# Altium footprint library fitipower.PcbLib: 7 footprints
Each footprint in its own frame and in the unit in brackets; x right, y up, seen from the top. Pads: shape width x height; smd on the part's side, far side on the other; paste and mask are expansions set on the pad; w line width, h text height; cw(c..) or ccw(c..) is an arc to the next point about the centre after c.
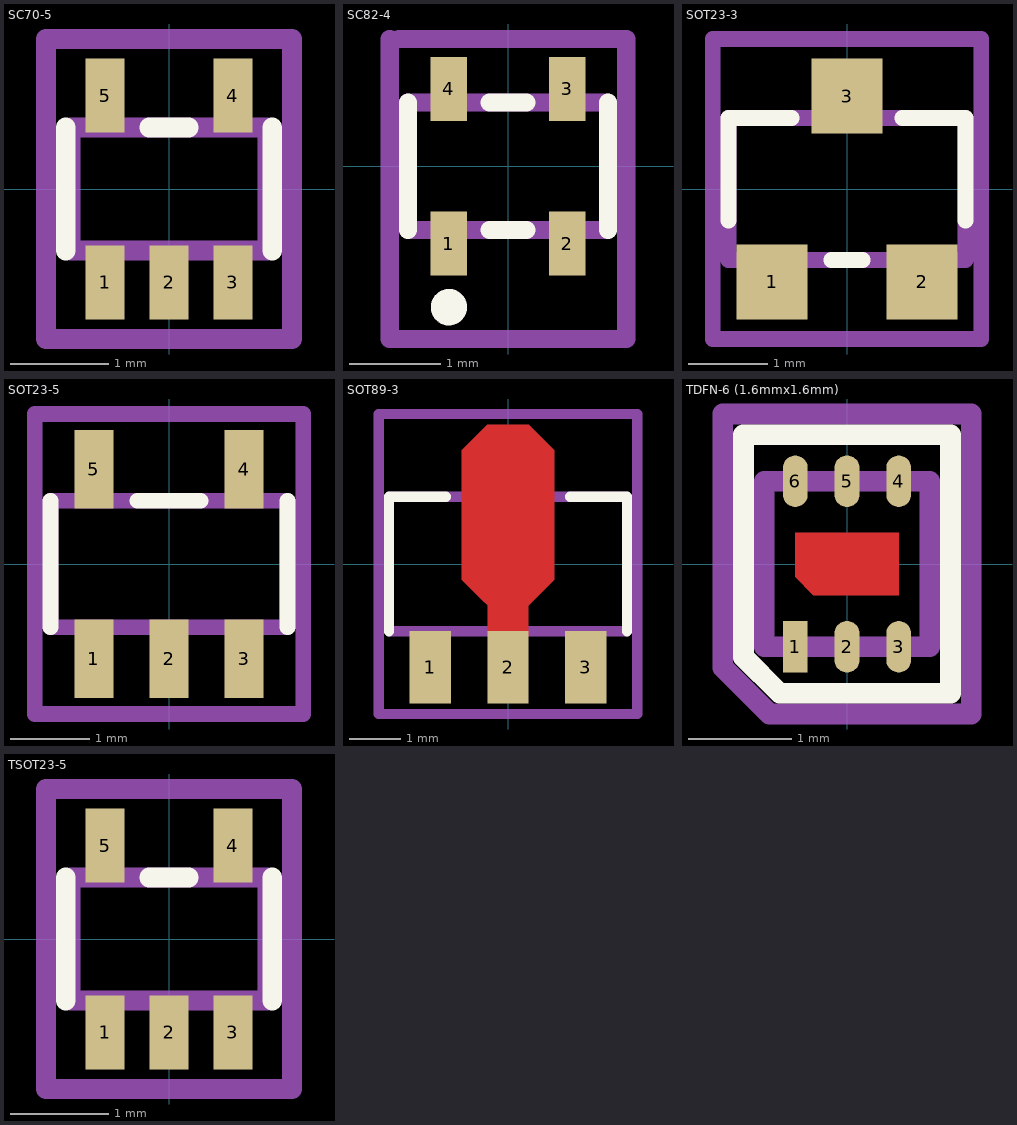
[diagram p0: the footprints below, top view; thin cyan lines are the x and y axes]

## SC70-5 [mm]
pads (5):
  rect 0.4x0.75 smd: 1(-0.65,-0.95) 2(0,-0.95) 3(0.65,-0.95) 4(0.65,0.95) 5(-0.65,0.95)
Top Overlay:
  lines w0.2: -1.05,-0.625 -1.05,0.625 ; -0.2,0.625 0.2,0.625 ; 1.05,-0.625 1.05,0.625
Mechanical 13:
  lines w0.2: -1,-0.625 -1,0.625 1,0.625 1,-0.625 -1,-0.625
Mechanical 15:
  lines w0.2: -1.25,-1.525 -1.25,1.525 1.25,1.525 1.25,-1.525 -1.25,-1.525

## SC82-4 [mm]
pads (4):
  rect 0.4x0.7 smd: 1(-0.65,-0.85) 2(0.65,-0.85) 3(0.65,0.85) 4(-0.65,0.85)
Top Overlay:
  circle w0.2: c-0.65,-1.55 r0.1
  lines w0.2: -1.1,-0.7 -1.1,0.7 ; -0.2,-0.7 0.2,-0.7 ; -0.2,0.7 0.2,0.7 ; 1.1,-0.7 1.1,0.7
Mechanical 13:
  lines w0.2: -1.1,-0.7 1.1,-0.7 1.1,0.7 -1.1,0.7 -1.1,-0.7
Mechanical 15:
  lines w0.2: -1.3,1.4 -1.3,-1.9 1.3,-1.9 1.3,1.4 -1.2,1.4

## SOT23-3 [mm] "SOT-23-3; SOT23-3; SOT-23; 3 Leads; Body 3.0 x 2.8 mm, inc. leads (LxW max)"
pads (3):
  rect 0.9x0.95 smd: 1(-0.95,-1.175) 2(0.95,-1.175) 3(0,1.175)
Top Overlay:
  lines w0.2: -1.5,-0.4 -1.5,0.9 -0.7,0.9 ; -0.2,-0.9 0.2,-0.9 ; 0.7,0.9 1.5,0.9 1.5,-0.4
Mechanical 13:
  lines w0.2: -1.5,-0.9 1.5,-0.9 1.5,0.9 -1.5,0.9 -1.5,-0.9
Mechanical 15:
  lines w0.2: -1.7,-1.9 1.7,-1.9 1.7,1.9 -1.7,1.9 -1.7,-1.9
3D body "SOT-23.step": height 1.4, standoff 0.1, extent -1.5,-1.5 1.5,1.5

## SOT23-5 [mm] "SOT23-5; SOT-23-5; 5 Leads; Body 3.0 x 2.8 mm, inc. leads (LxW max)"
pads (5):
  rect 0.5x1 smd: 1(-0.95,-1.2) 2(0,-1.2) 3(0.95,-1.2) 4(0.95,1.2) 5(-0.95,1.2)
Top Overlay:
  lines w0.2: -1.5,-0.8 -1.5,0.8 ; -0.4,0.8 0.4,0.8 ; 1.5,-0.8 1.5,0.8
Mechanical 13:
  lines w0.2: -1.5,-0.8 -1.5,0.8 1.5,0.8 1.5,-0.8 -1.5,-0.8
Mechanical 15:
  lines w0.2: -1.7,-1.9 1.7,-1.9 1.7,1.9 -1.7,1.9 -1.7,-1.9
3D body "User Library-SOT23-5.STEP": height 1.14, standoff 0.04, extent -1.45,-1.401 1.449,1.399

## SOT89-3 [mm] "SOT89-3; SOT-89-3; 3 Leads; Body 4.6 x 5.8 mm, inc. leads (LxW max)"
pads (3):
  rect 0.8x1.4 smd: 1(-1.5,-2) 2(0,-2) 3(1.5,-2)
Top Layer:
  rectangle: -0.4,-1.4 0.4,-0.8
  region: 0,-1.2 0.9,-0.3 0,0.6 -0.9,-0.3
  rectangle: -0.9,-0.3 0.9,2.2
  rectangle: -0.4,2.1 0.4,2.7
  region: -0.398,1.698 0.102,2.198 -0.4,2.7 -0.9,2.2
  region: 0.402,1.702 0.9,2.2 0.4,2.7 -0.098,2.202
Top Overlay:
  lines w0.2: -2.3,-1.3 -2.3,1.3 -1.2,1.3 ; 1.2,1.3 2.3,1.3 2.3,-1.3
Top Solder:
  rectangle: -0.5,-1.2 0.5,2.8
  rectangle: -1,-0.4 1,2.3
  region: 0,-1.4 1,-0.4 0,0.6 -1,-0.4
  region: 0.646,1.946 1,2.3 0.5,2.8 0.146,2.446
  region: -0.146,2.446 -0.5,2.8 -1,2.3 -0.646,1.947
Mechanical 13:
  lines w0.2: -2.3,-1.3 2.3,-1.3 ; -2.3,1.3 2.3,1.3
Mechanical 15:
  lines w0.2: -2.5,-2.9 -2.5,2.9 2.5,2.9 2.5,-2.9 -2.5,-2.9
3D body "SOT-89.STEP": height 1.51, standoff 0, extent -2.25,-2.3 2.25,2

## TDFN-6 (1.6mmx1.6mm) [mm]
pads (6):
  rect 0.24x0.5 smd: 1(-0.5,-0.8)
  oval 0.24x0.5 smd: 2(0,-0.8) 3(0.5,-0.8) 4(0.5,0.8) 5(0,0.8) 6(-0.5,0.8)
Top Layer:
  region: -0.325,-0.3 -0.5,-0.125 -0.5,0.3 0.5,0.3 0.5,-0.3
Top Overlay:
  lines w0.2: -1,-0.9 -0.65,-1.25 1,-1.25 1,1.25 -1,1.25 -1,-0.9
Mechanical 13:
  lines w0.2: -0.8,-0.8 0.8,-0.8 0.8,0.8 -0.8,0.8 -0.8,-0.8
Mechanical 15:
  lines w0.2: -1.2,-1 -0.75,-1.45 1.2,-1.45 1.2,1.45 -1.2,1.45 -1.2,-1

## TSOT23-5 [mm]
pads (5):
  rect 0.4x0.75 smd: 1(-0.65,-0.95) 2(0,-0.95) 3(0.65,-0.95) 4(0.65,0.95) 5(-0.65,0.95)
Top Overlay:
  lines w0.2: -1.05,-0.625 -1.05,0.625 ; -0.2,0.625 0.2,0.625 ; 1.05,-0.625 1.05,0.625
Mechanical 13:
  lines w0.2: -1,-0.625 1,-0.625 1,0.625 -1,0.625 -1,-0.625
Mechanical 15:
  lines w0.2: -1.25,-1.525 1.25,-1.525 1.25,1.525 -1.25,1.525 -1.25,-1.525